# Altium schematic symbol library CMT-8504-100-SMT-TR.SchLib: 1 symbol
Pins are listed as number, name and electrical type; pins without a type are passive.

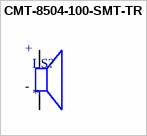
[diagram p0: symbol CMT-8504-100-SMT-TR]

## CMT-8504-100-SMT-TR
designator LS?
8.5 mm, 5 Vo-p, 100 dB, Surface Mount (SMT), Magnetic Audio Transducer Buzzer; MF: Same Sky; MP: CMT-8504-100-SMT-TR; SnapEDA_Link: https://www.snapeda.com/parts/CMT-8504-100-SMT-TR/Same+Sky/view-part/?ref=snap; Package: CUI Devices; Value: *; Check_prices: https://www.snapeda.com/parts/CMT-8504-100-SMT-TR/Same+Sky/view-part/?ref=eda
footprint XDCR_CMT-8504-100-SMT-TR
pins: N, P
text: +; -